# EAGLE library part LTC4412 (library linear-technology)
Low Loss PowerPath Controller
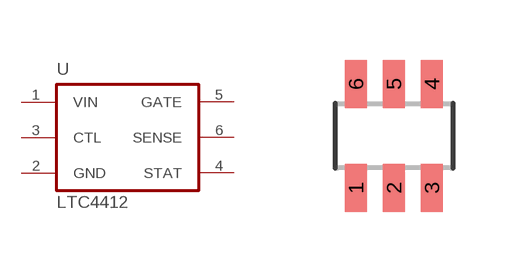
[diagram p37: symbol with the pads of TSOT23-6; footprint TSOT23-6]

Designator prefix U

## LTC4412 (P1I: o)  [TSOT23-6]
1  VIN  in
2  GND  pwr
3  CTL  in
4  STAT  out
5  GATE  out
6  SENSE  in

## Footprint TSOT23-6 (pad centres in mm)
TSOT-23 - S6 0.95 mm pitch
smd 0.55 x 1.2: 1 -0.95,-1.3; 2 0,-1.3; 3 0.95,-1.3; 4 0.95,1.3; 5 0,1.3; 6 -0.95,1.3